# EAGLE library part BTS5008-1EKB (library mosfet-infineon)
BTS5008-1EKB Smart High-Side Power Switch, Single Channel, 8 mOhm SOIC127P600X170-15N
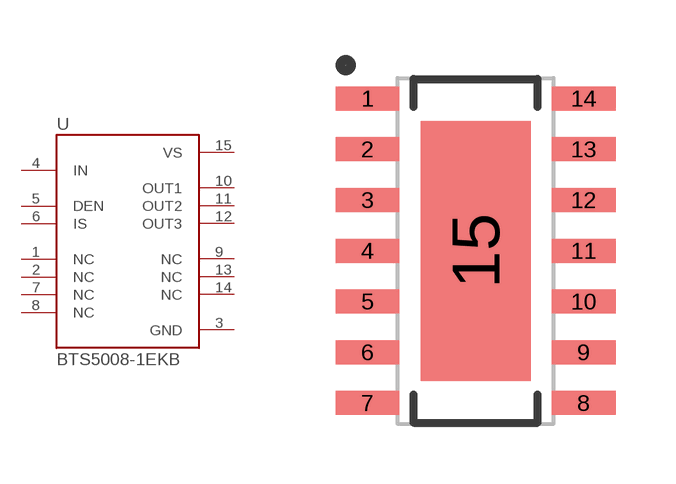
[diagram p50: symbol with the pads of SOIC127P600X170-15N; footprint SOIC127P600X170-15N]

Designator prefix U

## BTS5008-1EKB  [SOIC127P600X170-15N]
1  NC  pas
2  NC  pas
3  GND  pwr
4  IN  in
5  DEN  in
6  IS  out
7  NC  pas
8  NC  pas
9  NC  pas
10  OUT1  out
11  OUT2  out
12  OUT3  out
13  NC  pas
14  NC  pas
15  VS  pwr

## Footprint SOIC127P600X170-15N (pad centres in mm)
Original name SOIC127P600X170-15N Max Component Height - 1.7mm
smd 1.6 x 0.6: 1 -2.7,3.81; 2 -2.7,2.54; 3 -2.7,1.27; 4 -2.7,0; 5 -2.7,-1.27; 6 -2.7,-2.54; 7 -2.7,-3.81; 8 2.7,-3.81; 9 2.7,-2.54; 10 2.7,-1.27; 11 2.7,0; 12 2.7,1.27; 13 2.7,2.54; 14 2.7,3.81
smd 2.75 x 6.5: 15 0,0